# Altium footprint library 3296W-1.PcbLib: 1 footprints
Each footprint in its own frame and in the unit in brackets; x right, y up, seen from the top. Pads: shape width x height; smd on the part's side, far side on the other; paste and mask are expansions set on the pad; w line width, h text height; cw(c..) or ccw(c..) is an arc to the next point about the centre after c.
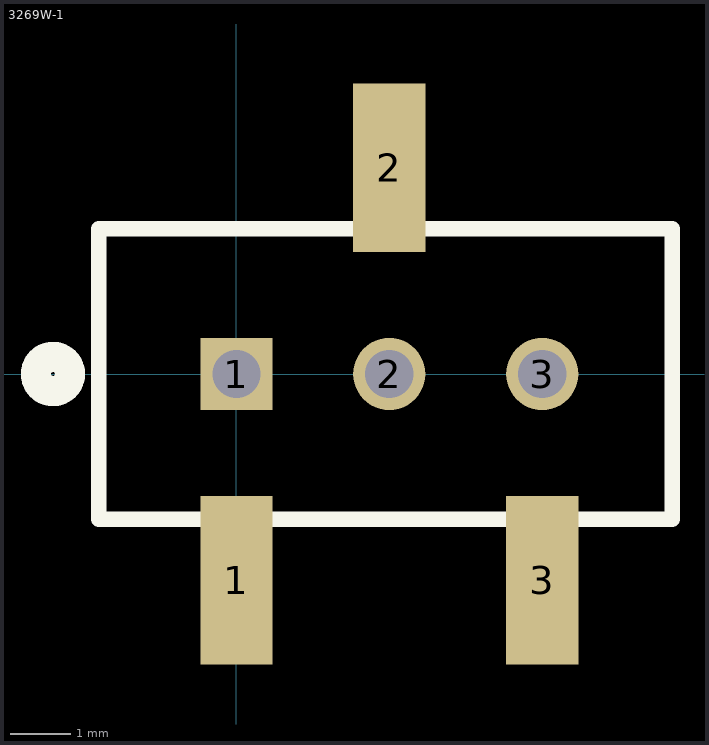
[diagram p0: the footprint, top view; thin cyan lines are the x and y axes]

## 3269W-1 [mm]
pads (6):
  rect 1.2x2.8 smd: 1(0,-3.429) 2(2.54,3.429) 3(5.08,-3.429)
  rect 1.2x1.2 hole 0.8: 1(0,0)
  round 1.2 hole 0.8: 2(2.54,0) 3(5.08,0)
Top Overlay:
  circle w0.5: c-3.048,0 r0.284
  lines w0.254: -2.286,-2.413 -2.286,2.413 7.239,2.413 7.239,-2.413 -2.286,-2.413
3D body "3296W-1-1.step": height 11.52, standoff -2, extent -2.225,-2.417 7.305,2.413